# Altium footprint library PCB2.PcbLib: 12 footprints
Each footprint in its own frame and in the unit in brackets; x right, y up, seen from the top. Pads: shape width x height; smd on the part's side, far side on the other; paste and mask are expansions set on the pad; w line width, h text height; cw(c..) or ccw(c..) is an arc to the next point about the centre after c.
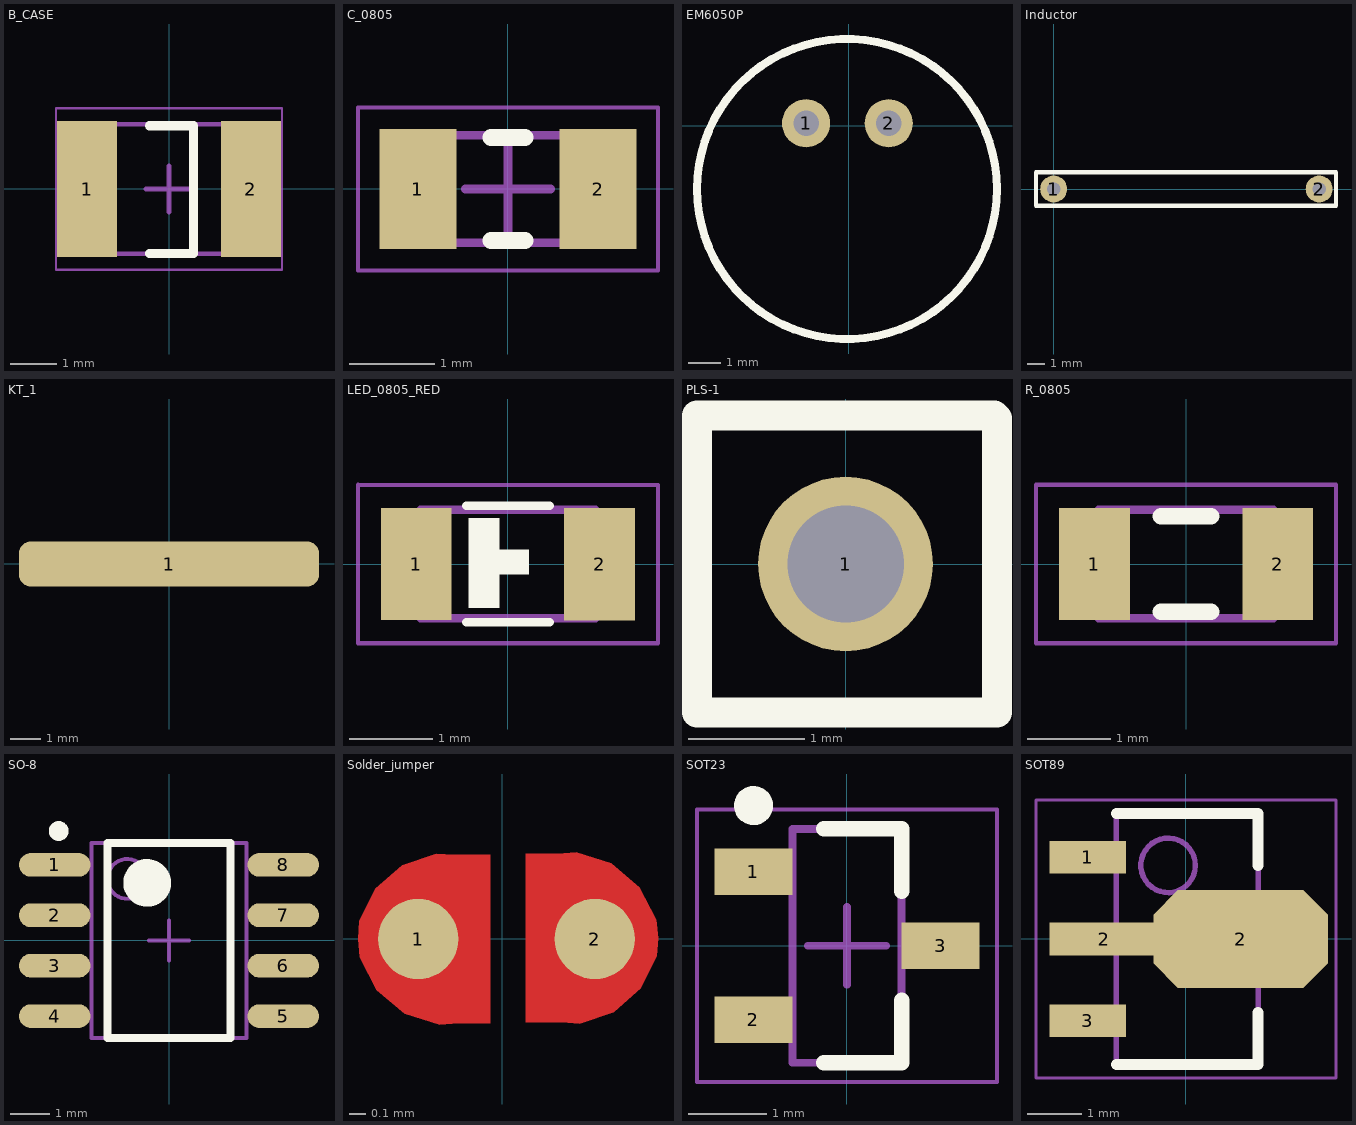
[diagram p0: the footprints below, top view; thin cyan lines are the x and y axes]

## B_CASE [mm] "Chip Capacitor, 2-Leads, Body 3,50x2,80mm, IPC Medium Density"
height 1.9
pads (2):
  rect 1.3x2.95 smd: 1(-1.778,0) 2(1.778,0)
Top Overlay:
  lines w0.2: -0.424,-1.397 0.533,-1.397 0.533,1.372 -0.424,1.372
Mechanical 13:
  lines w0.1: -1.75,-1.4 1.75,-1.4 1.75,1.4 -1.75,1.4 -1.75,-1.4
Mechanical 15:
  lines w0.05: -2.45,-1.75 2.45,-1.75 2.45,1.75 -2.45,1.75 -2.45,-1.75
  lines w0.1: -0.5,0 0.5,0 ; 0,-0.5 0,0.5
3D body "User Library-AVX_BCASE.step": height 2.03, standoff 0, extent -1.85,-1.465 1.85,1.465

## C_0805 [mm] "Chip Capacitor, 2-Leads, Body 2,00x1,25mm, IPC Medium Density"
height 1.3
pads (2):
  rect 0.9x1.4 smd: 1(-1.05,0) 2(1.05,0)
Top Overlay:
  lines w0.2: -0.2,-0.6 0.2,-0.6 ; -0.2,0.6 0.2,0.6
Mechanical 13:
  lines w0.1: -1,-0.625 1,-0.625 1,0.625 -1,0.625 -1,-0.625
Mechanical 15:
  lines w0.05: -1.75,-0.95 1.75,-0.95 1.75,0.95 -1.75,0.95 -1.75,-0.95
  lines w0.1: -0.5,0 0.5,0 ; 0,-0.5 0,0.5
3D body "User Library-C0805-2.step": height 0.8, standoff 0, extent -1,-0.625 1,0.625

## EM6050P [mm]
height 0.6
pads (2):
  round 1.5 hole 0.8: 1(-1.325,0.075) 2(1.25,0.075)
Top Overlay:
  circle w0.254: c-0.05,-1.975 r4.675
3D body "User Library-Panasonic_Microphone_WM52BM.step": height 5.15, standoff -4.02, extent -4.875,-6.775 4.825,2.925

## Inductor [mil]
pads (2):
  round 60 hole 30: 1(0,0) 2(590.55,0)
Top Overlay:
  lines w10: -39.37,-37.4 -39.37,37.4 627.95,37.4 627.95,-37.4 -39.37,-37.4

## KT_1 [mm]
height 0.6
pads (1):
  rrect50% 10x1.5 smd: 1(0,0)

## LED_0805_RED [mm]
height 0.6
pads (2):
  rect 0.85x1.35 smd: 1(-1.1,0) 2(1.1,0)
Top Overlay:
  rectangle: -0.475,-0.525 -0.1,0.55
  rectangle: -0.1,-0.125 0.25,0.175
  lines w0.1: -0.5,-0.7 0.5,-0.7 ; -0.5,0.7 0.5,0.7
Mechanical 13:
  lines w0.1: -1.05,-0.65 -1.05,0.65 1.05,0.65 1.05,-0.65 -1.05,-0.65
Mechanical 15:
  lines w0.05: -1.8,-0.95 -1.8,0.95 1.8,0.95 1.8,-0.95 -1.8,-0.95
3D body "User Library-led_0805_red.step": height 1.1, standoff 0, extent -1.11,-0.625 0.91,0.625

## PLS-1 [mm]
pads (1):
  round 1.5 hole 1: 1(0,0)
Top Overlay:
  lines w0.254: -1.275,-1.225 -1.225,-1.275 ; 1.275,-1.275 1.3,-1.25 ; -1.275,-1.275 -1.275,1.275 0,1.275 1.275,1.275 1.3,1.25 1.3,-1.275 -1.275,-1.275
3D body "User Library-PLS-1.STEP": height 8.44, standoff -3, extent -1.27,-1.27 1.27,1.27

## R_0805 [mm] "Chip Resistor, 2-Leads, Body 2,10x1,30mm, IPC Medium Density"
height 0.5
pads (2):
  rect 0.85x1.35 smd: 1(-1.1,0) 2(1.1,0)
Top Overlay:
  lines w0.2: -0.3,-0.575 0.3,-0.575 ; -0.3,0.575 0.3,0.575
Mechanical 13:
  lines w0.1: -1.05,-0.65 -1.05,0.65 1.05,0.65 1.05,-0.65 -1.05,-0.65
Mechanical 15:
  lines w0.05: -1.8,-0.95 -1.8,0.95 1.8,0.95 1.8,-0.95 -1.8,-0.95
3D body "User Library-R0805-2.step": height 0.55, standoff 0, extent -1.2,-0.625 1.2,0.625

## SO-8 [mm] "SOIC, 8-Leads, Body 4,90x3,90mm, Pitch 1,27mm, IPC Medium Density"
height 1.5
pads (8):
  oval 1.8x0.6 smd: 1(-2.875,1.905) 2(-2.875,0.635) 3(-2.875,-0.635) 4(-2.875,-1.905) 5(2.875,-1.905) 6(2.875,-0.635) 7(2.875,0.635) 8(2.875,1.905)
Top Overlay:
  circle w0.25: c-2.775,2.755 r0.125
  circle w0.6: c-0.55,1.45 r0.3
  lines w0.2: -1.55,-2.45 -1.55,2.45 1.55,2.45 1.55,-2.45 -1.55,-2.45
Mechanical 13:
  circle w0.1: c-1.05,1.55 r0.5
  lines w0.1: -1.95,-2.45 -1.95,2.45 1.95,2.45 1.95,-2.45 -1.95,-2.45
Mechanical 15:
  lines w0.1: -0.5,0 0.5,0 ; 0,-0.5 0,0.5
3D body "User Library-so8-3.step": height 1.7, standoff 0, extent -3,-2.45 3,2.45

## Solder_jumper [mm]
height 0.6
pads (2):
  rrect100% 0.5x0.5 smd: 1(-0.525,0) 2(0.575,0)
Top Layer:
  region: 0.144,-0.519 0.369,-0.519 0.481,-0.527 0.693,-0.455 0.862,-0.307 0.961,-0.106 0.969,0.006 0.959,0.12 0.853,0.324 0.677,0.471 0.458,0.541 0.344,0.531 0.144,0.531
  region: -0.075,0.525 -0.3,0.525 -0.412,0.532 -0.624,0.461 -0.793,0.313 -0.893,0.112 -0.9,0 -0.89,-0.114 -0.784,-0.318 -0.608,-0.466 -0.389,-0.535 -0.275,-0.525 -0.075,-0.525
Top Solder:
  rectangle: -0.124,-0.625 0.226,0.625

## SOT23 [mm] "SOT23, 3-Leads, Body 2,90x2,45mm, Pitch 0,95mm, IPC Medium Density"
height 1.1
pads (3):
  rect 1x0.6 smd: 1(-1.2,0.95) 2(-1.2,-0.95) 3(1.2,0)
Top Overlay:
  circle w0.25: c-1.2,1.8 r0.125
  lines w0.2: -0.3,-1.5 0.7,-1.5 0.7,-0.7 ; -0.3,1.5 0.7,1.5 0.7,0.7
Mechanical 13:
  lines w0.1: -0.7,-1.5 -0.7,1.5 0.7,1.5 0.7,-1.5 -0.7,-1.5
Mechanical 15:
  lines w0.05: -1.925,-1.75 -1.925,1.75 1.925,1.75 1.925,-1.75 -1.925,-1.75
  lines w0.1: -0.5,0 0.5,0 ; 0,-0.5 0,0.5
3D body "CircuitWorks-SOT-23.step": height 1.05, standoff -0.05, extent -1.05,-1.5 1.45,1.5

## SOT89 [mm] "SOT89, 3-Leads, Body 4.50x2.45mm, Pitch 1.50mm, Lead Span 4.1mm, IPC Medium Density"
height 1.6
pads (4):
  rect 1.4x0.6 smd: 1(-1.8,1.5) 3(-1.8,-1.5)
  rect 2x0.6 smd: 2(-1.5,0)
  oct 3.2x1.8 smd: 2(1,0)
Top Overlay:
  lines w0.2: -1.278,-2.3 1.323,-2.3 1.322,-1.35 ; -1.277,2.3 1.322,2.3 1.323,1.35
Mechanical 13:
  circle w0.1: c-0.327,1.35 r0.5
  lines w0.1: -1.278,-2.3 1.323,-2.3 1.322,2.3 -1.277,2.3 -1.278,-2.3
Mechanical 15:
  lines w0.05: -2.75,-2.55 2.75,-2.55 2.75,2.55 -2.75,2.55 -2.75,-2.55
  lines w0.1: -0.478,0 0.523,0 ; 0.023,-0.5 0.023,0.5
3D body "CircuitWorks-SOT-89.step": height 1.5, standoff 0, extent -2.15,-2.25 1.85,2.25